# Altium footprint library PCB13.PcbLib: 27 footprints (part 2 of 2)
Each footprint in its own frame and in the unit in brackets; x right, y up, seen from the top. Pads: shape width x height; smd on the part's side, far side on the other; paste and mask are expansions set on the pad; w line width, h text height; cw(c..) or ccw(c..) is an arc to the next point about the centre after c.
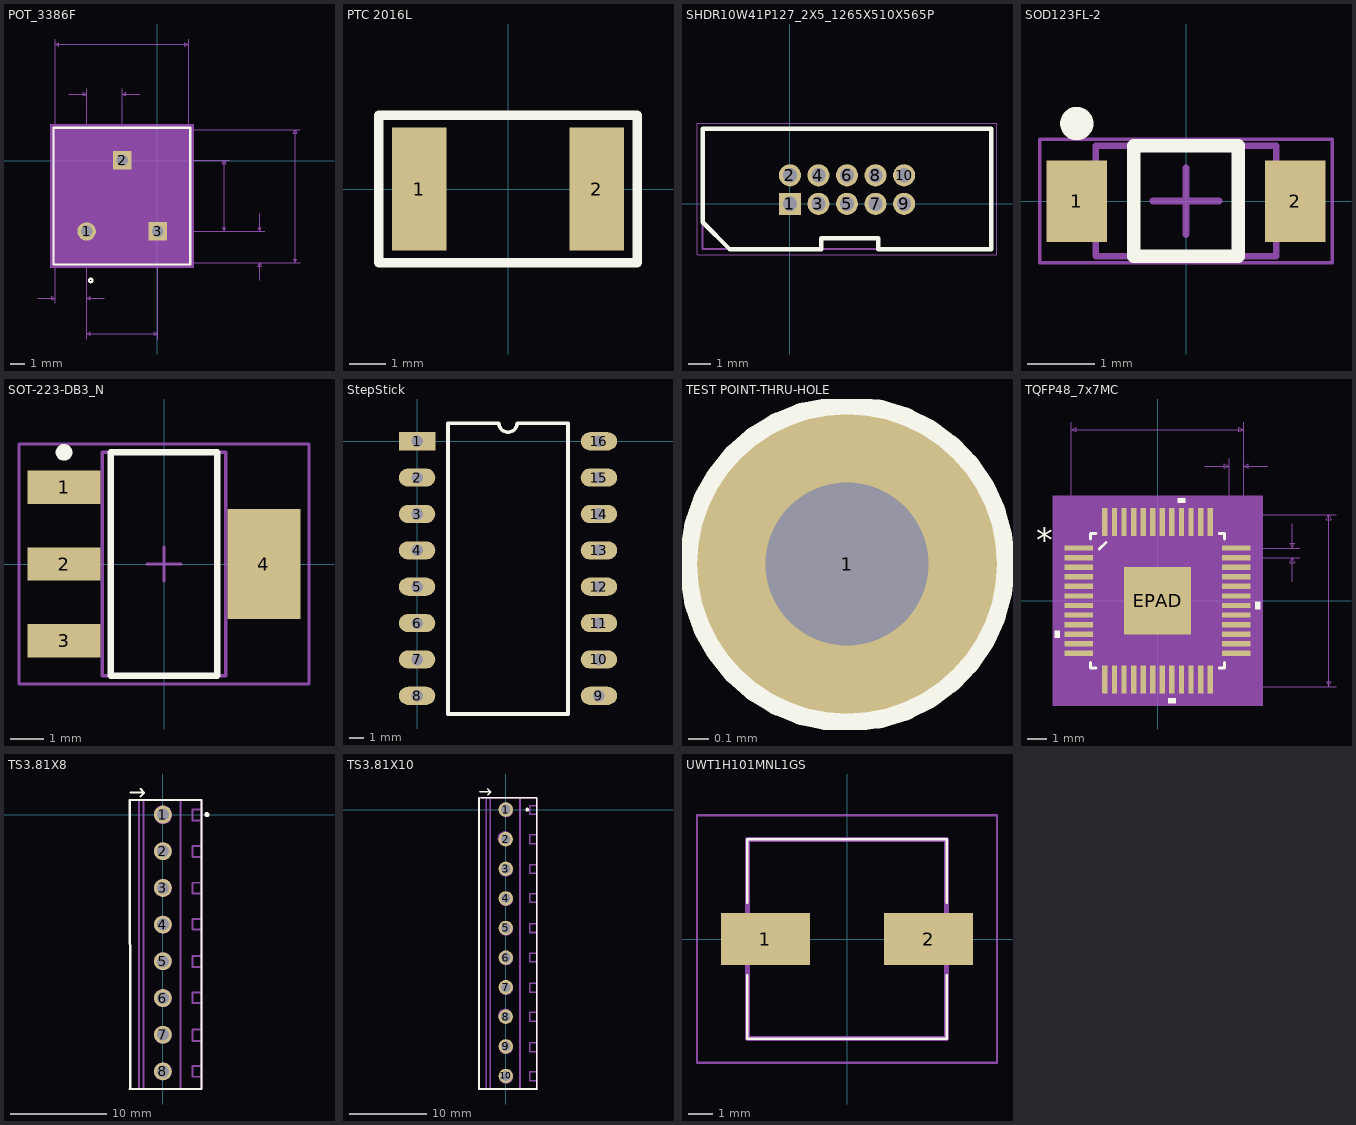
[diagram p1: the footprints below, top view; thin cyan lines are the x and y axes]

## POT_3386F [mil]
pads (3):
  round 52 hole 32 mask+0: 1(-199,-199)
  rect 52x52 hole 32 mask+0: 2(-99,1) 3(1,-199)
Top Overlay:
  circle w6: c-187.5,-337 r5
  lines w6: -292,-292 93,-292 93,93 -292,93 -292,-292
Mechanical 5:
  region: -302,103 103,103 103,-302 -302,-302
Mechanical 7:
  lines w1: -337,-387 -287,-387 ; -287,-402 -287,-297 ; -287,88 -287,343 ; -249,188 -199,188 ; -199,-502 -199,-235 ; -199,-402 -199,-235 ; -199,203 -199,-235 ; -149,-387 -199,-387 ; -99,-35 -99,203 ; -63,1 203,1 ; -49,188 -99,188 ; 1,-502 1,-35 ; 88,343 88,88 403,88 ; 203,-199 37,-199 303,-199 ; 288,-337 288,-287 ; 288,-149 288,-199 ; 303,-287 88,-287 403,-287 ; -287,-387 -297,-382 -297,-392 -287,-387 ; -287,328 88,328 ; -287,328 -277,333 -277,323 -287,328 ; -199,-487 1,-487 ; -199,-487 -189,-482 -189,-492 -199,-487 ; -199,-387 -189,-382 -189,-392 -199,-387 ; -199,188 -209,193 -209,183 -199,188 ; -99,188 -89,193 -89,183 -99,188 ; 1,-487 -9,-482 -9,-492 1,-487 ; 88,328 78,333 78,323 88,328 ; 188,-199 188,1 ; 188,-199 183,-189 193,-189 188,-199 ; 188,1 183,-9 193,-9 188,1 ; 288,-287 283,-297 293,-297 288,-287 ; 288,-199 283,-189 293,-189 288,-199 ; 388,-287 388,88 ; 388,-287 383,-277 393,-277 388,-287 ; 388,88 383,78 393,78 388,88
  text "Pin 1 Padstyle: SX52Y52D32P" at -437,-637 h50
  text "Default Padstyle: EX52Y52D32P" at -462,-712 h50
  text "Alt 1 Padstyle: OX60Y90D30P" at -437,-787 h50
  text "Alt 2 Padstyle: OX90Y60D30P" at -437,-862 h50
  text "0.088in/2.235mm" at -336.75,-432 h25
  text "0.1in/2.54mm" at -224,208 h25
  text "0.2in/5.08mm" at -174,-532 h25
  text "0.375in/9.525mm" at -193.25,348 h25
  text "0.2in/5.08mm" at 208,-112 h25
  text "0.088in/2.235mm" at 308,-305.25 h25
  text "0.375in/9.525mm" at 408,-112 h25
Mechanical 13:
  circle w0: c-187.5,-267 r5
  circle w0: c-237,38 r40
  lines w1: -287,-287 88,-287 88,88 -287,88 -287,-287
Mechanical 15:
  region: 98,-297 -297,-297 -297,98 98,98
  lines w6: -297,-297 -297,98 98,98 98,-297 -297,-297
3D body: height 10, standoff 0, extent 0,0 10,10

## PTC 2016L [mil]
pads (2):
  rect 59x133 smd: 1(-96,0) 2(96,0)
Top Overlay:
  lines w10: -140,-80 -140,10 -140,80 140,80 140,-80 -140,-80

## SHDR10W41P127_2X5_1265X510X565P [mm]
pads (10):
  rect 0.984x0.984 hole 0.635: 1(0,0)
  round 0.984 hole 0.635: 2(0,1.27) 3(1.27,0) 4(1.27,1.27) 5(2.54,0) 6(2.54,1.27) 7(3.81,0) 8(3.81,1.27) 9(5.08,0) 10(5.08,1.27)
Top Overlay:
  lines w0.2: -3.885,-0.814 -2.667,-2.032 1.397,-2.032 1.397,-1.524 3.937,-1.524 3.937,-2.015 8.965,-2.015 8.965,3.335 -3.885,3.335 -3.885,-0.814
Mechanical 13:
  lines w0.1: -3.885,-2.015 8.965,-2.015 8.965,3.335 -3.885,3.335 -3.885,-2.015
Mechanical 15:
  lines w0.05: -4.135,-2.265 9.215,-2.265 9.215,3.585 -4.135,3.585 -4.135,-2.265

## SOD123FL-2 [mm] "SOD, 2-Leads, Body 2.7x1.65mm"
height 1
pads (2):
  rect 0.91x1.22 smd: 1(-1.635,0) 2(1.635,0)
Top Overlay:
  circle w0.25: c-1.635,1.16 r0.125
  lines w0.2: -0.78,-0.825 -0.78,0.825 0.78,0.825 0.78,-0.825 -0.78,-0.825
Mechanical 13:
  lines w0.1: -1.35,-0.825 -1.35,0.825 1.35,0.825 1.35,-0.825 -1.35,-0.825
Mechanical 15:
  lines w0.05: -2.19,-0.925 -2.19,0.925 2.19,0.925 2.19,-0.925 -2.19,-0.925
  lines w0.1: -0.5,0 0.5,0 ; 0,-0.5 0,0.5
3D body: height 1, standoff 0, extent -1.35,-0.825 1.35,0.825

## SOT-223-DB3_N [mm]
pads (4):
  rect 2.2x1 smd: 1(-3,2.3) 2(-3,0) 3(-3,-2.3)
  rect 2.2x3.3 smd: 4(3,0)
Top Overlay:
  circle w0.25: c-3,3.35 r0.125
  lines w0.2: -1.6,-3.35 1.6,-3.35 1.6,3.35 -1.6,3.35 -1.6,-3.35
Mechanical 13:
  lines w0.1: -1.85,-3.35 1.85,-3.35 1.85,3.35 -1.85,3.35 -1.85,-3.35
Mechanical 15:
  lines w0.1: -0.5,0 0.5,0 ; 0,-0.5 0,0.5 ; -4.35,-3.6 4.35,-3.6 4.35,3.6 -4.35,3.6 -4.35,-3.6
3D body: height 1.8, standoff 0, extent -1.85,-3.35 1.85,3.35

## StepStick [mil]
pads (16):
  rect 100x50 hole 32: 1(0,0)
  oval 100x50 hole 32: 2(0,-100) 3(0,-200) 4(0,-300) 5(0,-400) 6(0,-500) 7(0,-600) 8(0,-700) 9(500,-700) 10(500,-600) 11(500,-500) 12(500,-400) 13(500,-300) 14(500,-200) 15(500,-100) 16(500,0)
Top Overlay:
  lines w10: 85,-750 85,50 225,50 ccw(c250,50) 275,50 415,50 415,-750 85,-750

## TEST POINT-THRU-HOLE [mm]
pads (1):
  round 1.5 hole 0.813: 1(0,0)
Top Overlay:
  circle w0.254: c0,0 r0.711

## TQFP48_7x7MC [mil]
pads (49):
  rect 58x11 smd: 1(-162,108.27) 2(-162,88.58) 3(-162,68.9) 4(-162,49.21) 5(-162,29.53) 6(-162,9.84) 7(-162,-9.84) 8(-162,-29.53) 9(-162,-49.21) 10(-162,-68.9) 11(-162,-88.58) 12(-162,-108.27) 25(162,-108.27) 26(162,-88.58) 27(162,-68.9) 28(162,-49.21) 29(162,-29.53) 30(162,-9.84) 31(162,9.84) 32(162,29.53) 33(162,49.21) 34(162,68.9) 35(162,88.58) 36(162,108.27)
  rect 11x58 smd: 13(-108.27,-162) 14(-88.58,-162) 15(-68.9,-162) 16(-49.21,-162) 17(-29.53,-162) 18(-9.84,-162) 19(9.84,-162) 20(29.53,-162) 21(49.21,-162) 22(68.9,-162) 23(88.58,-162) 24(108.27,-162) 37(108.27,162) 38(88.58,162) 39(68.9,162) 40(49.21,162) 41(29.53,162) 42(9.84,162) 43(-9.84,162) 44(-29.53,162) 45(-49.21,162) 46(-68.9,162) 47(-88.58,162) 48(-108.27,162)
  rect 138x138 smd paste-68.5 mask+0: EPAD(0,0)
Top Overlay:
  region: 56.71,201 41.71,201 41.71,211 56.71,211
  region: 201,-2.34 211,-2.34 211,-17.34 201,-17.34
  region: 37.03,-201 22.03,-201 22.03,-211 37.03,-211
  region: -201,-61.4 -211,-61.4 -211,-76.4 -201,-76.4
  lines w6: -138,-126.87 -138,-138 -126.87,-138 ; -138,126.87 -138,138 -126.87,138 ; -119.9,106.1 -106.1,119.9 ; 126.87,-138 138,-138 138,-126.87 ; 126.87,138 138,138 138,126.87
  text "*" at -250,100 h50
Top Paste:
  region: 65.06,-3.94 3.94,-3.94 3.94,-65.06 65.06,-65.06
  region: 65.06,65.06 3.94,65.06 3.94,3.94 65.06,3.94
  region: -3.94,-3.94 -65.06,-3.94 -65.06,-65.06 -3.94,-65.06
  region: -3.94,65.06 -65.06,65.06 -65.06,3.94 -3.94,3.94
Mechanical 5:
  region: 216,-216 -216,-216 -216,216 216,216
Mechanical 7:
  lines w1: -177,108.27 -177,367 ; 97,277 147,277 ; 108.27,-177 367,-177 ; 108.27,177 367,177 ; 147,108.27 147,292 ; 162,88.58 292,88.58 ; 162,108.27 292,108.27 ; 177,292 177,108.27 177,367 ; 227,277 177,277 ; 277,38.58 277,88.58 ; 277,158.27 277,108.27 ; -177,352 -167,347 -167,357 -177,352 ; -177,352 177,352 ; 147,277 137,272 137,282 147,277 ; 177,277 187,272 187,282 177,277 ; 177,352 167,347 167,357 177,352 ; 277,88.58 282,78.58 272,78.58 277,88.58 ; 277,108.27 282,118.27 272,118.27 277,108.27 ; 352,-177 357,-167 347,-167 352,-177 ; 352,-177 352,177 ; 352,177 357,167 347,167 352,177
  text "0.354in/8.992mm" at 372,-12.5 h25
  text "0.354in/8.992mm" at -93.75,372 h25
  text "0.03in/0.762mm" at 74.5,297 h25
  text "1.968504E-02in/0.5mm" at 297,85.93 h25
  text "Alt 2 Padstyle: OX90Y60D30P" at -337.5,-727 h50
  text "Alt 1 Padstyle: OX60Y90D30P" at -337.5,-667 h50
  text "Heat Tab Padstyle: RX138Y138D0T" at -387.5,-547 h50
  text "Default Vert Padstyle: RX11Y58D0T" at -412.5,-487 h50
  text "Default Horiz Padstyle: RX11Y58D0T" at -425,-427 h50
Mechanical 13:
  drawing of 197 lines, arcs and shapes, not listed
  text "*" at -228.5,108.11 h50
Mechanical 15:
  region: 201,-201 -201,-201 -201,201 201,201
  lines w6: -201,-201 201,-201 201,201 -201,201 -201,-201
3D body: height 10, standoff 0, extent 0,0 10,10

## TS3.81X8 [mm]
pads (8):
  round 1.85 hole 1.25: 1(0,0) 2(0,-3.81) 3(0,-7.62) 4(0,-11.43) 5(0,-15.24) 6(0,-19.05) 7(0,-22.86) 8(0,-26.67)
Top Overlay:
  circle w0.25: c4.572,0 r0.125
  lines w0.2: -3.429,1.5 3.988,1.5 3.988,-28.497 ; -3.35,2.27 -1.94,2.27 ; -2.32,1.89 -1.94,2.27 ; -2.32,2.65 -1.94,2.27
  lines w0.254: -3.429,-28.497 3.988,-28.497 ; -3.429,1.5 -3.4,-28.497
Mechanical 15:
  circle w0.254: c0,-26.67 r0.8
  circle w0.254: c0,-22.86 r0.8
  circle w0.254: c0,-19.05 r0.8
  circle w0.254: c0,-15.24 r0.8
  circle w0.254: c0,-11.43 r0.8
  circle w0.254: c0,-7.62 r0.8
  circle w0.254: c0,-3.81 r0.8
  circle w0.254: c0.026,-0.076 r0.8
  circle w0.254: c0,0.02 r0.8
  lines w0.2: -3.429,-28.473 3.988,-28.473 3.988,1.51 -3.429,1.51 -3.429,-28.448 ; -2.5,-28.448 -2.5,1.44 ; -2,-28.448 -2,1.5 ; -0.7,0.4 0.3,-0.6 ; -0.621,-3.583 0.279,-4.483 ; -0.595,-22.57 0.305,-23.47 ; -0.595,-18.76 0.305,-19.66 ; -0.595,-14.95 0.305,-15.85 ; -0.595,-11.14 0.305,-12.04 ; -0.595,-7.33 0.305,-8.23 ; -0.595,0.29 0.305,-0.61 ; -0.583,-26.443 0.318,-27.343 ; -0.328,-3.228 0.622,-4.178 ; -0.302,-22.215 0.648,-23.165 ; -0.302,-18.405 0.648,-19.355 ; -0.302,-14.595 0.648,-15.545 ; -0.302,-10.785 0.648,-11.735 ; -0.302,-6.975 0.648,-7.925 ; -0.302,0.645 0.648,-0.305 ; -0.29,-25.961 0.66,-26.911 ; 3.073,-27.229 3.973,-27.229 ; 3.088,-27.211 3.088,-26.111 3.988,-26.111 ; 3.088,-15.824 3.988,-15.824 ; 3.088,-15.781 3.088,-14.681 3.988,-14.681 ; 3.088,-4.351 3.088,-3.251 3.988,-3.251 ; 3.088,-0.61 3.988,-0.61 ; 3.088,-0.592 3.088,0.508 3.988,0.508 ; 3.099,-4.42 3.999,-4.42 ; 3.951,-23.512 3.088,-23.512 3.088,-22.327 3.988,-22.327 ; 3.973,-19.566 3.073,-19.566 3.073,-18.466 3.973,-18.466 ; 3.988,-11.946 3.088,-11.946 3.088,-10.846 3.988,-10.846 ; 3.988,-8.187 3.088,-8.187 3.088,-7.087 3.988,-7.087
  lines w0.254: 1.829,-28.473 1.829,1.51

## TS3.81X10 [mm] "Screw Terminal Strip, 10 Way, 3.81 mm Pitch"
pads (10):
  round 1.85 hole 1.25: 1(0,0) 2(0,-3.81) 3(0,-7.62) 4(0,-11.43) 5(0,-15.24) 6(0,-19.05) 7(0,-22.86) 8(0,-26.67) 9(0,-30.48) 10(0,-34.29)
Top Overlay:
  circle w0.25: c2.76,-0.005 r0.125
  lines w0.2: -3.35,2.27 -1.94,2.27 ; -3.25,1.5 3.988,1.5 3.988,-28.497 3.988,-35.966 ; -2.32,1.89 -1.94,2.27 ; -2.32,2.65 -1.94,2.27
  lines w0.254: -3.429,1.51 -3.429,-35.966 3.988,-35.966
Mechanical 15:
  circle w0.254: c0.026,-34.366 r0.8
  circle w0.254: c0.026,-30.556 r0.8
  circle w0.254: c-0.089,-26.556 r0.8
  circle w0.254: c0.026,-22.936 r0.8
  circle w0.254: c0.026,-19.126 r0.8
  circle w0.254: c0.026,-15.316 r0.8
  circle w0.254: c0.026,-11.506 r0.8
  circle w0.254: c0.026,-7.696 r0.8
  circle w0.254: c-0.127,-3.696 r0.8
  circle w0.254: c0.026,-0.076 r0.8
  circle w0.254: c0,0.02 r0.8
  lines w0.2: -2.5,1.44 -2.5,-35.966 -3.429,-35.966 ; -2,-35.966 -2,1.5 ; -0.748,-3.329 0.152,-4.229 ; -0.71,-26.189 0.191,-27.089 ; -0.7,0.4 0.3,-0.6 ; -0.595,-34 0.305,-34.9 ; -0.595,-30.19 0.305,-31.09 ; -0.595,-22.57 0.305,-23.47 ; -0.595,-18.76 0.305,-19.66 ; -0.595,-14.95 0.305,-15.85 ; -0.595,-11.14 0.305,-12.04 ; -0.595,-7.33 0.305,-8.23 ; -0.595,0.29 0.305,-0.61 ; -0.455,-2.974 0.495,-3.924 ; -0.417,-25.834 0.533,-26.784 ; -0.302,-33.645 0.648,-34.595 ; -0.302,-29.835 0.648,-30.785 ; -0.302,-22.215 0.648,-23.165 ; -0.302,-18.405 0.648,-19.355 ; -0.302,-14.595 0.648,-15.545 ; -0.302,-10.785 0.648,-11.735 ; -0.302,-6.975 0.648,-7.925 ; -0.302,0.645 0.648,-0.305 ; 3.073,-27.229 3.973,-27.229 ; 3.088,-30.023 3.988,-30.023 ; 3.088,-27.211 3.088,-26.111 3.988,-26.111 ; 3.088,-15.824 3.988,-15.824 ; 3.088,-15.781 3.088,-14.681 3.988,-14.681 ; 3.088,-4.351 3.088,-3.251 3.988,-3.251 ; 3.088,-0.61 3.988,-0.61 ; 3.088,-0.592 3.088,0.508 3.988,0.508 ; 3.099,-34.9 3.937,-34.9 ; 3.099,-34.831 3.099,-33.731 3.937,-33.731 ; 3.099,-30.066 3.099,-31.166 3.999,-31.166 ; 3.099,-4.42 3.999,-4.42 ; 3.951,-23.512 3.088,-23.512 3.088,-22.327 3.988,-22.327 ; 3.973,-19.566 3.073,-19.566 3.073,-18.466 3.973,-18.466 ; 3.988,-11.946 3.088,-11.946 3.088,-10.846 3.988,-10.846 ; 3.988,-8.187 3.088,-8.187 3.088,-7.087 3.988,-7.087 ; -3.429,-35.966 -3.429,1.51 3.988,1.51 3.988,-35.966 -3.429,-35.966
  lines w0.254: 1.829,-35.966 1.829,1.51

## UWT1H101MNL1GS [mm]
pads (2):
  rect 3.7x2.15 smd: 1(-3.4,0) 2(3.4,0)
Top Overlay:
  lines w0.1: -4.15,-1.5 -4.15,-4.15 4.15,-4.15 4.15,-1.5 ; -4.15,1.5 -4.15,4.15 4.15,4.15 4.15,1.5
Mechanical 13:
  lines w0.2: -4.15,-4.15 4.15,-4.15 4.15,4.15 -4.15,4.15 -4.15,-4.15
Mechanical 15:
  lines w0.1: -6.25,-5.15 6.25,-5.15 6.25,5.15 -6.25,5.15 -6.25,-5.15
3D body "UWT1H101MNL1GS.stp": height 10.1, standoff 0, extent -5.035,-4.15 5.035,4.15